# Altium footprint library SpeakerAmpPCBLib.PcbLib: 7 footprints
Each footprint in its own frame and in the unit in brackets; x right, y up, seen from the top. Pads: shape width x height; smd on the part's side, far side on the other; paste and mask are expansions set on the pad; w line width, h text height; cw(c..) or ccw(c..) is an arc to the next point about the centre after c.
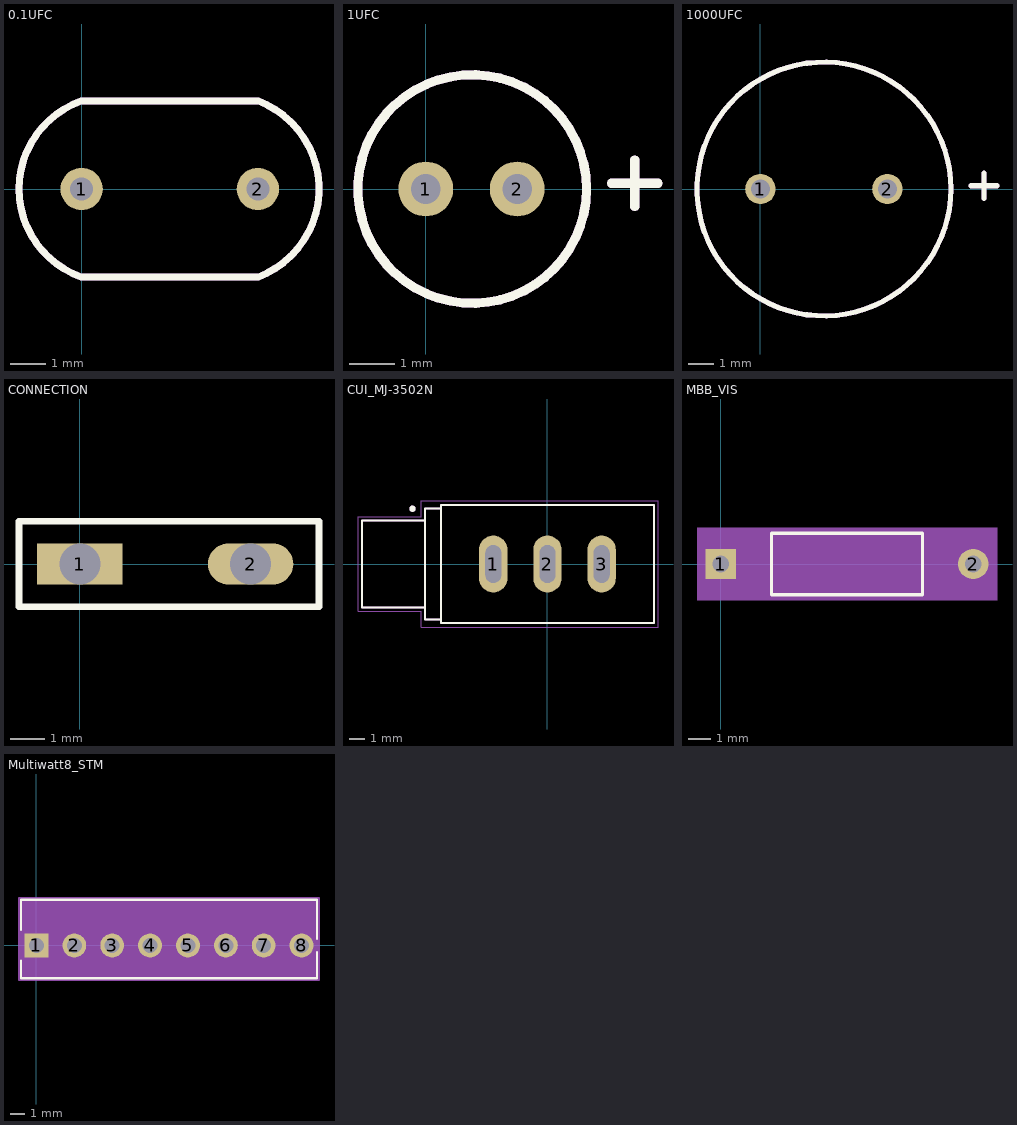
[diagram p0: the footprints below, top view; thin cyan lines are the x and y axes]

## 0.1UFC [mm]
pads (2):
  round 1.2 hole 0.65: 1(0,0) 2(5,0)
Top Overlay:
  lines w0.2: 0,-2.5 cw(c0.869,0) 0,2.5 1.25,2.5 3.75,2.5 5,2.5 cw(c4.065,0) 5,-2.5 0,-2.5
Mechanical 29:
  lines w0.2: 0,-2.5 cw(c0.869,0) 0,2.5 1.25,2.5 3.75,2.5 5,2.5 cw(c4.065,0) 5,-2.5 0,-2.5
  text "'.Designator'String" at -0.662,-0.175 h0.7

## 1UFC [mm]
pads (2):
  round 1.2 hole 0.65: 1(0,0) 2(2,0)
Top Overlay:
  circle w0.2: c1.016,0 r2.5
  lines w0.2: 4.064,0.127 5.08,0.127 ; 4.572,-0.381 4.572,0.635
Mechanical 29:
  circle w0.2: c1.016,0 r2.5
  lines w0.2: 4.064,0.127 5.08,0.127 ; 4.572,-0.381 4.572,0.635
  text "'.Designator'String" at -1.424,-0.175 h0.7
3D body "ESK105M050AC3AA.step": height 12.52, standoff -19.99, extent -1.734,-2.761 3.766,2.75

## 1000UFC [mm]
pads (2):
  round 1.2 hole 0.75: 1(0,0) 2(5,0)
Top Overlay:
  circle w0.2: c2.5,0 r5
  lines w0.2: 8.302,0.127 9.318,0.127 ; 8.81,-0.381 8.81,0.635
Mechanical 29:
  circle w0.2: c2.5,0 r5
  lines w0.2: 8.302,0.127 9.318,0.127 ; 8.81,-0.381 8.81,0.635
  text "'.Designator'String" at -1.932,-0.175 h0.7
3D body "CAP_YX_10X20_RUB.step": height 22.01, standoff -4.37, extent -2.749,-5.245 7.745,5.245

## CONNECTION [mm]
pads (2):
  rect 2.5x1.2 hole 1.2: 1(0,0)
  oval 2.5x1.2 hole 1.2: 2(5,0)
Top Overlay:
  lines w0.2: 0.625,1.25 7,1.25 7,-1.25 -1.778,-1.25 -1.778,1.25 1.875,1.25

## CUI_MJ-3502N [mm]
pads (3):
  oval 1.8x3.6 hole 1 slot 2.4 at 90 deg: 1(-3.429,0) 2(0,0) 3(3.429,0)
Top Overlay:
  circle w0.2: c-8.55,3.5 r0.1
  lines w0.127: -7.75,-2.75 -11.75,-2.75 -11.75,2.75 -7.75,2.75 ; -7.75,-2.75 -7.75,-3.5 -6.75,-3.5 ; -7.75,-2.75 -7.75,2.75 ; -7.75,2.75 -7.75,3.5 -6.75,3.5 ; -6.75,-3.5 -6.75,3.5 ; -6.75,-3.5 -6.75,-3.75 6.75,-3.75 6.75,3.75 -6.75,3.75 -6.75,3.5
Mechanical 13:
  lines w0.127: -7.8,-2.75 -11.75,-2.75 -11.75,2.75 -7.75,2.75 ; -7.75,2.75 -7.75,-3.5 -6.75,-3.5 ; -7.75,2.75 -7.75,3.5 -6.75,3.5 ; -6.75,-3.5 -6.75,3.5 ; -6.75,-3.5 -6.75,-3.75 6.75,-3.75 6.75,3.75 -6.75,3.75 -6.75,3.5
Mechanical 15:
  lines w0.05: -12,-3 -12,3 -8,3 -8,4 7,4 7,-4 -8,-4 -8,-3 -12,-3
Mechanical 29:
  circle w0.2: c-8.55,3.5 r0.1
  lines w0.127: -7.75,-2.75 -11.75,-2.75 -11.75,2.75 -7.75,2.75 ; -7.75,-2.75 -7.75,-3.5 -6.75,-3.5 ; -7.75,-2.75 -7.75,2.75 ; -7.75,2.75 -7.75,3.5 -6.75,3.5 ; -6.75,-3.5 -6.75,3.5 ; -6.75,-3.5 -6.75,-3.75 6.75,-3.75 6.75,3.75 -6.75,3.75 -6.75,3.5
  text "'.Designator'String" at -5.996,-0.429 h0.7

## MBB_VIS [mm]
pads (2):
  rect 1.362x1.362 hole 0.75 mask+0: 1(0,0)
  round 1.362 hole 0.75 mask+0: 2(11.3,0)
Top Overlay:
  lines w0.152: 2.273,-1.377 2.273,1.377 9.027,1.377 9.027,-1.377 2.273,-1.377
Mechanical 5:
  region: 12.362,-1.631 -1.062,-1.631 -1.062,1.631 12.362,1.631
Mechanical 13:
  lines w0.025: 0,0 2.4,0 ; 8.9,0 11.3,0 ; 2.4,-1.25 2.4,1.25 8.9,1.25 8.9,-1.25 2.4,-1.25
Mechanical 15:
  region: 2.146,-0.935 -0.935,-0.935 -0.935,0.935 2.146,0.935 2.146,1.504 9.154,1.504 9.154,0.935 12.235,0.935 12.235,-0.935 9.154,-0.935 9.154,-1.504 2.146,-1.504
  lines w0.152: -0.935,-0.935 2.146,-0.935 2.146,-1.504 9.154,-1.504 9.154,-0.935 12.235,-0.935 12.235,0.935 9.154,0.935 9.154,1.504 2.146,1.504 2.146,0.935 -0.935,0.935 -0.935,-0.935
Mechanical 29:
  lines w0.152: 2.273,-1.377 2.273,1.377 9.027,1.377 9.027,-1.377 2.273,-1.377
  text "'.Designator'String" at 2.64,-0.175 h0.7
3D body "MBB_VIS.step": height 2.49, standoff -2.79, extent -0.3,-1.247 11.6,1.248
3D body: height 0.25, standoff 0, extent 0,0 0.254,0.254

## Multiwatt8_STM [mil]
pads (8):
  rect 63x63 hole 39.37: 1(0,0)
  round 63 hole 39.37: 2(100,0) 3(200,0) 4(300,0) 5(400,0) 6(500,0) 7(600,0) 8(700,0)
Top Overlay:
  lines w6: -41,-40.52 -41,-86.5 741,-86.5 741,-17.55 ; -41,40.52 -41,120.5 741,120.5 741,17.55
Mechanical 13:
  circle w0: c-16,0 r8
  lines w1: -36,-81.5 736,-81.5 736,115.5 -36,115.5 -36,-81.5
  lines w6: -10,0 10,0 ; 0,-10 0,10
Mechanical 15:
  region: 746,-91.5 -46,-91.5 -46,125.5 746,125.5
  lines w6: -46,-91.5 -46,125.5 746,125.5 746,-91.5 -46,-91.5
Mechanical 29:
  lines w6: -41,-40.52 -41,-86.5 741,-86.5 741,-17.55 ; -41,40.52 -41,120.5 741,120.5 741,17.55
  text "'.Designator'String" at 123.94,3.12 h27.56
3D body "Multiwatt8_STM.step": height 797.01, standoff -232.01, extent -35.98,-81.49 735.99,115.52
3D body: height 10, standoff 0, extent 0,0 10,10